# EAGLE library part PHKD3NQ10T (library shieldLibrary)
NXP Semiconductors Dual N-Channel MOSFET
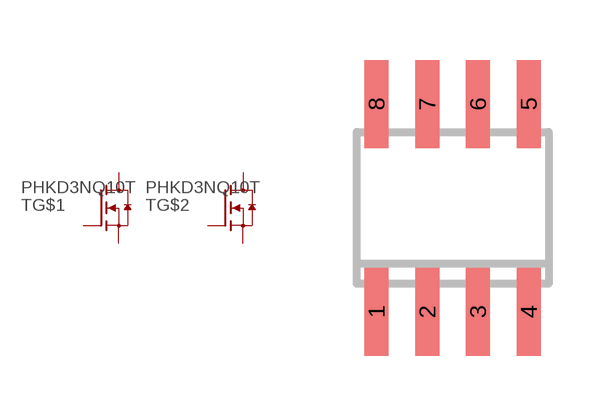
[diagram p4: symbol with the pads of SO8; footprint SO8]

Designator prefix T; gates G$1=NMOS-FET-E G$2=NMOS-FET-E

## PHKD3NQ10T  [SO8]
1  G$1:S  pas
2  G$1:G  pas
3  G$2:S  pas
4  G$2:G  pas
5  G$2:D  pas
6  G$2:D  pas
7  G$1:D  pas
8  G$1:D  pas

## Footprint SO8 (pad centres in mm)
SMALL OUTLINE INTEGRATED CIRCUIT
smd 0.6 x 2.2: 1 -1.905,-2.6; 2 -0.635,-2.6; 3 0.635,-2.6; 4 1.905,-2.6; 5 1.905,2.6; 6 0.635,2.6; 7 -0.635,2.6; 8 -1.905,2.6